# Altium schematic symbol library Pushbutton - Large.Schlib: 1 symbol
Pins are listed as number, name and electrical type; pins without a type are passive.

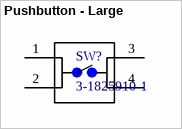
[diagram p0: symbol Pushbutton - Large]

## Pushbutton - Large
designator SW?, comment 3-1825910-1
Schematic symbol for a generic 4-pin pushbutton (duplicate pins). Larger in size, used for System PCB reset.
footprint Pushbutton - Large - 5-1437565-0
pins: 1, 2, 3, 4